# EAGLE library part GE07R (library EW_Resistors)
SIL RESISTOR
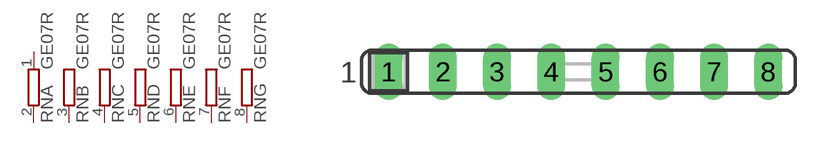
[diagram p63: symbol with the pads of SIL8; footprint SIL8]

Designator prefix RN; gates A=R-NV-7 B=R-NV1-7 C=R-NV1-7 D=R-NV1-7 E=R-NV1-7 F=R-NV1-7 G=R-NV1-7

## GE07R (OC_FARNELL: unknown; OC_NEWARK: unknown)  [SIL8]
1  A:1  pas
2  A:2  pas
3  B:2  pas
4  C:2  pas
5  D:2  pas
6  E:2  pas
7  F:2  pas
8  G:2  pas

## Footprint SIL8 (pad centres in mm)
Single In Line
drill 0.813 long: 1 -8.89,0; 2 -6.35,0; 3 -3.81,0; 4 -1.27,0; 5 1.27,0; 6 3.81,0; 7 6.35,0; 8 8.89,0